# Altium schematic symbol library TJA1051T-3-1J.Schlib: 1 symbol
Pins are listed as number, name and electrical type; pins without a type are passive.

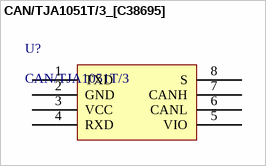
[diagram p0: symbol CAN/TJA1051T/3_[C38695]]

## CAN/TJA1051T/3_[C38695]
designator U?, comment CAN/TJA1051T/3
CAN
footprint SOIC-8_150mil
pins: 1 TXD, 2 GND, 3 VCC, 4 RXD, 5 VIO, 6 CANL, 7 CANH, 8 S